# Altium schematic symbol library TMP175AIDR.SchLib: 2 symbols
Pins are listed as number, name and electrical type; pins without a type are passive.

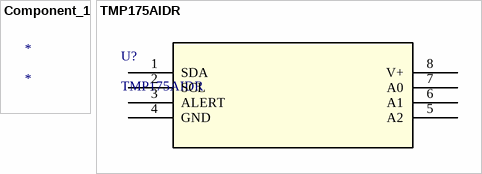
[diagram p0: symbols Component_1 to TMP175AIDR]

## Component_1
designator *

## TMP175AIDR
designator U?
No Description Available; Mfr_Name: Texas Instruments; Copyright: Copyright (C) 2022 Ultra Librarian. All rights reserved.; Manufacturer_Part_Number: TMP175AIDR; Digi-Key_Part_Number_1: 296-17837-1-ND; Digi-Key_Part_Number_2: 296-17837-2-ND; Digi-Key_Part_Number_3: 296-17837-6-ND; Digi-Key_Part_Number_4: 2156-TMP175AIDR-ND; RefDes: RefDes; Type: DEV
footprint D8
pins: 1 SDA, 2 SCL, 3 ALERT, 4 GND (power), 5 A2, 6 A1, 7 A0, 8 V+ (power)